# Altium schematic symbol library IC_BATTCHARGER.SchLib: 2 symbols
Pins are listed as number, name and electrical type; pins without a type are passive.

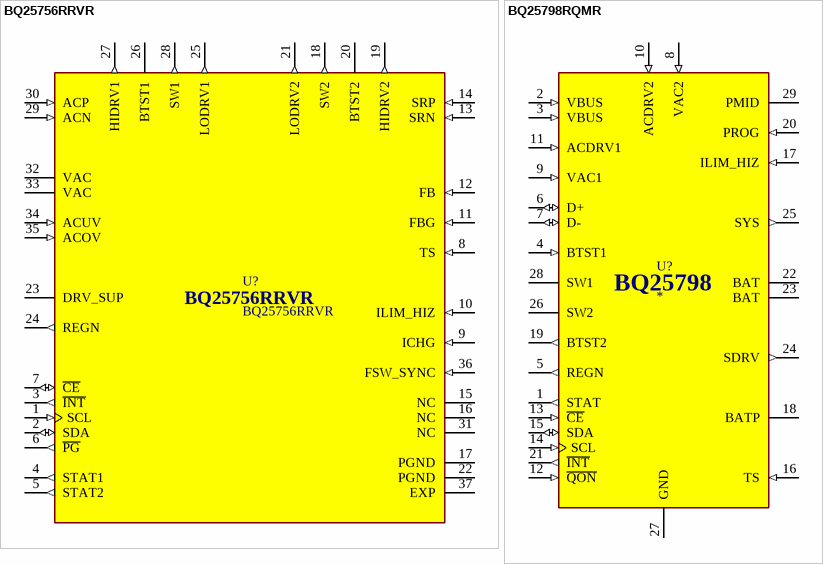
[diagram p0: symbols BQ25756RRVR to BQ25798RQMR]

## BQ25756RRVR
designator U?
Standalone/I2C Controlled, 1- to 14-Cell Bidirectional Buck-Boost Battery Charge Controller
footprint VQFN36_5x6_P0.5
pins: 1 SCL (in), 2 SDA (io), 3 ~{INT} (out), 4 STAT1 (out), 5 STAT2 (out), 6 ~{PG} (out), 7 ~{CE} (io), 8 TS (in), 9 ICHG (in), 10 ILIM_HIZ (in), 11 FBG (in), 12 FB (in), 13 SRN (in), 14 SRP (in), 15 NC, 16 NC, 17 PGND (power), 18 SW2 (out), 19 HIDRV2 (out), 20 BTST2 (power), 21 LODRV2 (out), 22 PGND (power), 23 DRV_SUP (power), 24 REGN (out), 25 LODRV1 (out), 26 BTST1 (power), 27 HIDRV1 (out), 28 SW1 (out), 29 ACN (in), 30 ACP (in), 31 NC, 32 VAC (power), 33 VAC (power), 34 ACUV (in), 35 ACOV (in), 36 FSW_SYNC (in), 37 EXP (power)

## BQ25798RQMR
designator U?
IÂ²C controlled, 1-4-cell, 5-A buck-boost solar battery charger with dual-input selector and MPPT
footprint VQFN29-HR-4X4
pins: 1 STAT (out), 2 VBUS (in), 3 VBUS (in), 4 BTST1 (in), 5 REGN (out), 6 D+ (io), 7 D- (io), 8 VAC2 (in), 9 VAC1 (in), 10 ACDRV2 (in), 11 ACDRV1 (in), 12 ~{QON} (in), 13 ~{CE} (in), 14 SCL (in), 15 SDA (io), 16 TS (in), 17 ILIM_HIZ (in), 18 BATP (power), 19 BTST2 (out), 20 PROG (in), 21 ~{INT} (out), 22 BAT (power), 23 BAT (power), 24 SDRV (out), 25 SYS (out), 26 SW2, 27 GND (power), 28 SW1, 29 PMID
text: BQ25798